# EAGLE library part MPU-9250 (library RoboJackets-Sensors)
http://www.invensense.com/mems/gyro/documents/PS-MPU-9250A-01.pdf
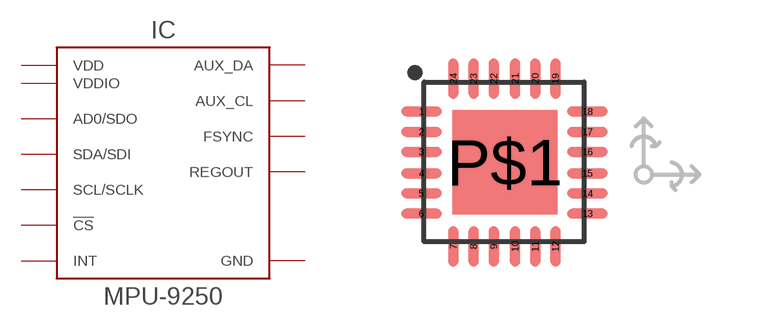
[diagram p4: symbol with the pads of QFN-24-4MM2; footprint QFN-24-4MM2]

Designator prefix IC

## MPU-9250  [QFN-24-4MM2]
1  VDDIO  pwr
7  AUX_CL  out
8  VDDIO  pwr
9  AD0/SDO
10  REGOUT
11  FSYNC  in
12  INT  out
13  VDD  pwr
18  GND  pwr
20  GND  pwr
21  AUX_DA
22  !CS!  in
23  SCL/SCLK  in
24  SDA/SDI

## Footprint QFN-24-4MM2 (pad centres in mm)
smd 1.016 x 0.254: 1 -2.066,1.257; 2 -2.066,0.75; 3 -2.066,0.247; 4 -2.066,-0.287; 5 -2.066,-0.792; 6 -2.066,-1.297; 13 2.086,-1.297; 14 2.086,-0.792; 15 2.086,-0.287; 16 2.086,0.247; 17 2.086,0.75; 18 2.086,1.257
smd 0.254 x 1.016: 7 -1.267,-2.122; 8 -0.762,-2.122; 9 -0.258,-2.122; 10 0.278,-2.122; 11 0.78,-2.122; 12 1.287,-2.122; 19 1.287,2.082; 20 0.78,2.082; 21 0.278,2.082; 22 -0.258,2.082; 23 -0.762,2.082; 24 -1.267,2.082
smd 2.616 x 2.616: P$1 0.02,-0.01